# Altium schematic symbol library SN74AHC08.SchLib: 1 symbol
Pins are listed as number, name and electrical type; pins without a type are passive.

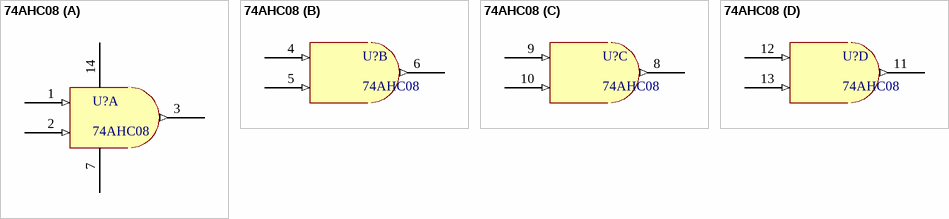
[diagram p0: symbol 74AHC08]

## 74AHC08
designator U?
TTL Quad AND gate
part A pins: 1 (in), 2 (in), 3 (out), 7 (power), 14 (power)
part B pins: 4 (in), 5 (in), 6 (out)
part C pins: 8 (out), 9 (in), 10 (in)
part D pins: 11 (out), 12 (in), 13 (in)